# EAGLE library part IC191-0562-003 (library 31813 Neutron Readout PCB)
IC & Component Sockets 56Pin TSOP Burn-in Skt 0.50 pitch Source: Datasheet
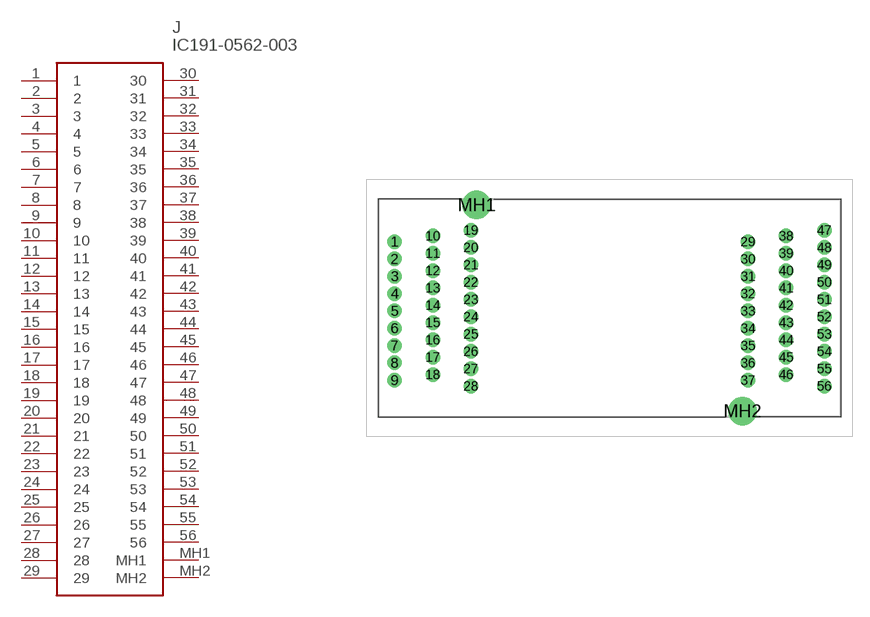
[diagram p19: symbol with the pads of IC1910562003; footprint IC1910562003]

Designator prefix J

## IC191-0562-003 (DESCRIPTION: IC & Component Sockets 56Pin TSOP Burn-in Skt 0.50 pitch; HEIGHT: 19.2mm; MANUFACTURER_NAME: Yamaichi; MANUFACTURER_PART_NUMBER: IC191-0562-003; MOUSER_PART_NUMBER: 945-IC191-0562-003; MOUSER_PRICE-STOCK: https://www.mouser.com/Search/Refine.aspx?Keyword=945-IC191-0562-003)  [IC1910562003]
1  1
2  2
3  3
4  4
5  5
6  6
7  7
8  8
9  9
10  10
11  11
12  12
13  13
14  14
15  15
16  16
17  17
18  18
19  19
20  20
21  21
22  22
23  23
24  24
25  25
26  26
27  27
28  28
29  29
30  30
31  31
32  32
33  33
34  34
35  35
36  36
37  37
38  38
39  39
40  40
41  41
42  42
43  43
44  44
45  45
46  46
47  47
48  48
49  49
50  50
51  51
52  52
53  53
54  54
55  55
56  56
MH1  MH1
MH2  MH2

## Footprint IC1910562003 (pad centres in mm)
IC191-0562-003-5
drill 0.75 pad 1.2: 1 0,0; 2 0,-1.5; 3 0,-3; 4 0,-4.5; 5 0,-6; 6 0,-7.5; 7 0,-9; 8 0,-10.5; 9 0,-12; 10 3.3,0.5; 11 3.3,-1; 12 3.3,-2.5; 13 3.3,-4; 14 3.3,-5.5; 15 3.3,-7; 16 3.3,-8.5; 17 3.3,-10; 18 3.3,-11.5; 19 6.6,1; 20 6.6,-0.5; 21 6.6,-2; 22 6.6,-3.5; 23 6.6,-5; 24 6.6,-6.5; 25 6.6,-8; 26 6.6,-9.5; 27 6.6,-11; 28 6.6,-12.5; 29 30.58,0; 30 30.58,-1.5; 31 30.58,-3; 32 30.58,-4.5; 33 30.58,-6; 34 30.58,-7.5; 35 30.58,-9; 36 30.58,-10.5; 37 30.58,-12; 38 33.88,0.5; 39 33.88,-1; 40 33.88,-2.5; 41 33.88,-4; 42 33.88,-5.5; 43 33.88,-7; 44 33.88,-8.5; 45 33.88,-10; 46 33.88,-11.5; 47 37.18,1; 48 37.18,-0.5; 49 37.18,-2; 50 37.18,-3.5; 51 37.18,-5; 52 37.18,-6.5; 53 37.18,-8; 54 37.18,-9.5; 55 37.18,-11; 56 37.18,-12.5
drill 1.65 pad 2.475: MH1 7.09,3.175; MH2 30.09,-14.675